# Altium integrated library ON Semi Digital Transistors (BRTs).IntLib: 470 symbols (part 2 of 11)
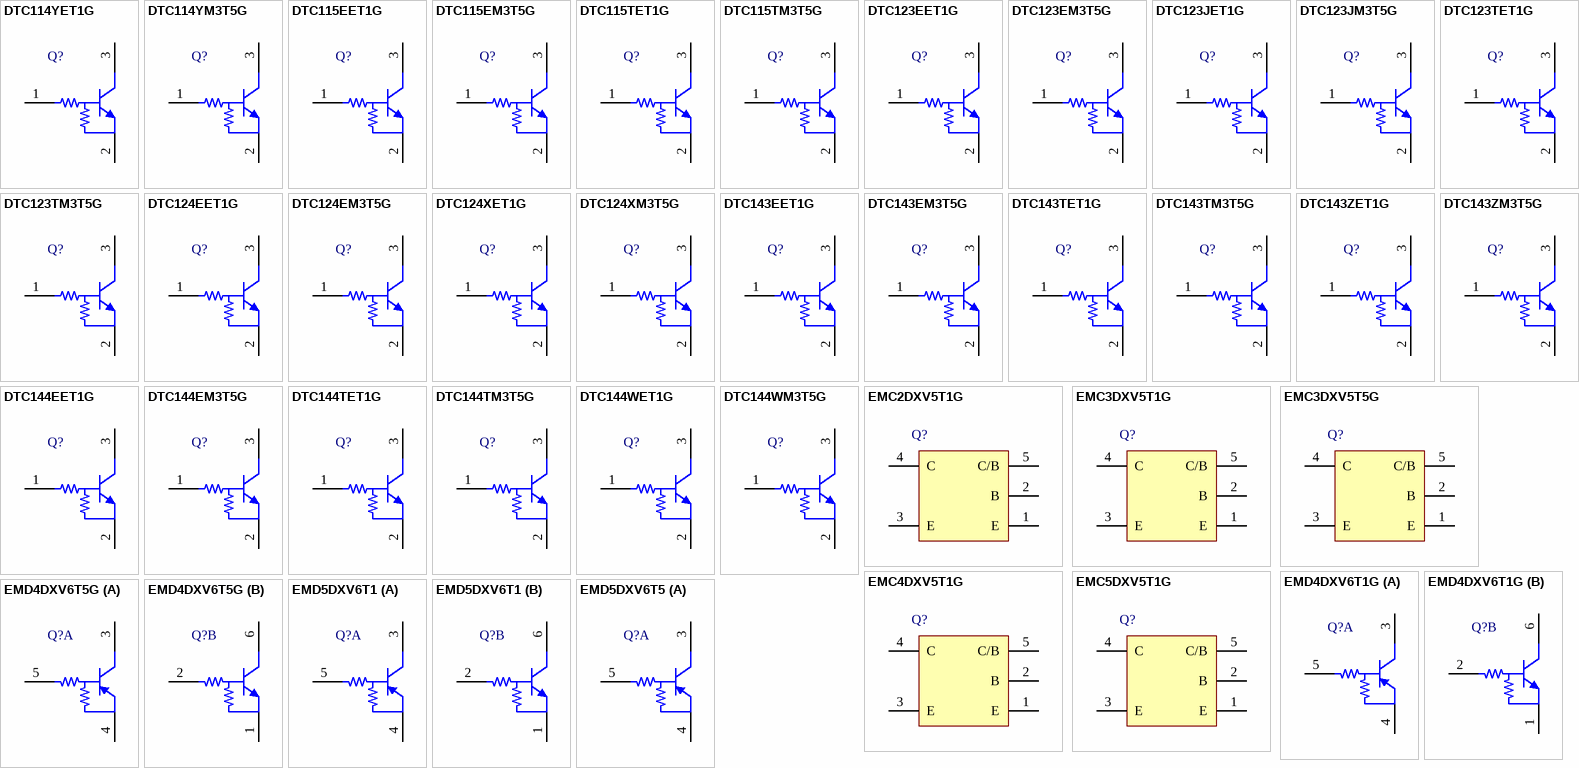
[diagram p17: symbols DTC114YET1G to EMD5DXV6T5]

## DTC115EM3T5G
designator Q?
Digital Transistor (BRT), R1=100 kOhm, R2=100 kOhm, NPN Transistor, 3-Pin SOT-723, Pb-Free, Tape and Reel; Manufacturer: On Semiconductor; PartNumber: DTC115EM3T5G; hFE Min: 80; IC Continuous (A): 0.1; R1/R2 Typ: 1; V(BR)CEO Min (V): 50; DatasheetVersion: Rev. 2; PackageVersion: Rev. D, 08/2009; PackageReference: SOT-723-3-631AA-01; PackageDescription: 3-Pin Small Outline Transistor, Body 1.2 x 0.8 mm, Pitch 0.4 mm; Supplier 1: Digi-Key; Supplier Part Number 1: DTC115EM3T5GOSTR-ND; Supplier 2: Digi-Key; Supplier Part Number 2: DTC115EM3T5GOSCT-ND; Supplier 3: Digi-Key; Supplier Part Number 3: DTC115EM3T5GOSDKR-ND; Supplier 4: Mouser; Supplier Part Number 4: 863-DTC115EM3T5G; Packing: Tape and Reel; Polarity: NPN; RoHS: TRUE; Mounting Technology: Surface Mount; ComponentLink1Description: Manufacturer URL; ComponentLink1URL: http://www.onsemi.com/; ComponentLink2Description: Datasheet; ComponentLink2URL: http://www.onsemi.cn/pub_link/Collateral/DTC115E-D.PDF; ComponentLink3Description: Package Specification; ComponentLink3URL: http://www.onsemi.com/pub_link/Collateral/631AA.PDF
footprint ONSC-SOT-723-3-631AA-01_V (SOT223, 3-Leads, Body 1.2x0.8mm, Pitch 0.4mm)
pins: 1 B, 2 E, 3 C

## DTC115TET1G
designator Q?
Digital Transistor (BRT), R1=100 kOhm, R2=infinity kOhm, NPN Transistor, 3-Pin SC-75, Pb-Free, Tape and Reel; Manufacturer: On Semiconductor; PartNumber: DTC115TET1G; hFE Min: 160; IC Continuous (A): 0.1; V(BR)CEO Min (V): 50; DatasheetVersion: Rev. 1; PackageVersion: Rev. F, 07/2005; PackageReference: SC-75-3-463-01; PackageDescription: 3-Pin Small Outline Transistor, Body 1.6 x 0.8 mm, Pitch 0.5 mm; Supplier 1: Newark; Supplier Part Number 1: 97W4983; Supplier 2: Mouser; Supplier Part Number 2: 863-DTC115TET1G; Packing: Tape and Reel; Polarity: NPN; RoHS: TRUE; Mounting Technology: Surface Mount; ComponentLink1Description: Manufacturer URL; ComponentLink1URL: http://www.onsemi.com/; ComponentLink2Description: Datasheet; ComponentLink2URL: http://www.onsemi.cn/pub_link/Collateral/DTC115T-D.PDF; ComponentLink3Description: Package Specification; ComponentLink3URL: http://www.onsemi.com/pub_link/Collateral/463-01.PDF
footprint ONSC-SC-75-3-463-01_V (SOT23, 3-Leads, Body 1.6x0.8mm, Pitch 0.5mm)
pins: 1 B, 2 E, 3 C

## DTC115TM3T5G
designator Q?
Digital Transistor (BRT), R1=100 kOhm, R2=infinity kOhm, NPN Transistor, 3-Pin SOT-723, Pb-Free, Tape and Reel; Manufacturer: On Semiconductor; PartNumber: DTC115TM3T5G; hFE Min: 160; IC Continuous (A): 0.1; V(BR)CEO Min (V): 50; DatasheetVersion: Rev. 1; PackageVersion: Rev. D, 08/2009; PackageReference: SOT-723-3-631AA-01; PackageDescription: 3-Pin Small Outline Transistor, Body 1.2 x 0.8 mm, Pitch 0.4 mm; Supplier 1: Newark; Supplier Part Number 1: 97W4984; Supplier 2: Mouser; Supplier Part Number 2: 863-DTC115TM3T5G; Packing: Tape and Reel; Polarity: NPN; RoHS: TRUE; Mounting Technology: Surface Mount; ComponentLink1Description: Manufacturer URL; ComponentLink1URL: http://www.onsemi.com/; ComponentLink2Description: Datasheet; ComponentLink2URL: http://www.onsemi.cn/pub_link/Collateral/DTC115T-D.PDF; ComponentLink3Description: Package Specification; ComponentLink3URL: http://www.onsemi.com/pub_link/Collateral/631AA.PDF
footprint ONSC-SOT-723-3-631AA-01_V (SOT223, 3-Leads, Body 1.2x0.8mm, Pitch 0.4mm)
pins: 1 B, 2 E, 3 C

## DTC123EET1G
designator Q?
Digital Transistor (BRT), R1=2.2 kOhm, R2=2.2 kOhm, NPN Transistor, 3-Pin SC-75, Pb-Free, Tape and Reel; Manufacturer: On Semiconductor; PartNumber: DTC123EET1G; hFE Min: 8; IC Continuous (A): 0.1; R1/R2 Typ: 1; V(BR)CEO Min (V): 50; DatasheetVersion: Rev. 1; PackageVersion: Rev. F, 07/2005; PackageReference: SC-75-3-463-01; PackageDescription: 3-Pin Small Outline Transistor, Body 1.6 x 0.8 mm, Pitch 0.5 mm; Supplier 1: Digi-Key; Supplier Part Number 1: DTC123EET1G-ND; Supplier 2: Mouser; Supplier Part Number 2: 863-DTC123EET1G; Packing: Tape and Reel; Polarity: NPN; RoHS: TRUE; Mounting Technology: Surface Mount; ComponentLink1Description: Manufacturer URL; ComponentLink1URL: http://www.onsemi.com/; ComponentLink2Description: Datasheet; ComponentLink2URL: http://www.onsemi.cn/pub_link/Collateral/DTC123E-D.PDF; ComponentLink3Description: Package Specification; ComponentLink3URL: http://www.onsemi.com/pub_link/Collateral/463-01.PDF
footprint ONSC-SC-75-3-463-01_V (SOT23, 3-Leads, Body 1.6x0.8mm, Pitch 0.5mm)
pins: 1 B, 2 E, 3 C

## DTC123EM3T5G
designator Q?
Digital Transistor (BRT), R1=2.2 kOhm, R2=2.2 kOhm, NPN Transistor, 3-Pin SOT-723, Pb-Free, Tape and Reel; Manufacturer: On Semiconductor; PartNumber: DTC123EM3T5G; hFE Min: 8; IC Continuous (A): 0.1; R1/R2 Typ: 1; V(BR)CEO Min (V): 50; DatasheetVersion: Rev. 1; PackageVersion: Rev. D, 08/2009; PackageReference: SOT-723-3-631AA-01; PackageDescription: 3-Pin Small Outline Transistor, Body 1.2 x 0.8 mm, Pitch 0.4 mm; Supplier 1: Digi-Key; Supplier Part Number 1: DTC123EM3T5GOSTR-ND; Supplier 2: Digi-Key; Supplier Part Number 2: DTC123EM3T5GOSCT-ND; Supplier 3: Mouser; Supplier Part Number 3: 863-DTC123EM3T5G; Packing: Tape and Reel; Polarity: NPN; RoHS: TRUE; Mounting Technology: Surface Mount; ComponentLink1Description: Manufacturer URL; ComponentLink1URL: http://www.onsemi.com/; ComponentLink2Description: Datasheet; ComponentLink2URL: http://www.onsemi.cn/pub_link/Collateral/DTC123E-D.PDF; ComponentLink3Description: Package Specification; ComponentLink3URL: http://www.onsemi.com/pub_link/Collateral/631AA.PDF
footprint ONSC-SOT-723-3-631AA-01_V (SOT223, 3-Leads, Body 1.2x0.8mm, Pitch 0.4mm)
pins: 1 B, 2 E, 3 C

## DTC123JET1G
designator Q?
Digital Transistor (BRT), R1=2.2 kOhm, R2=47 kOhm, NPN Transistor, 3-Pin SC-75, Pb-Free, Tape and Reel; Manufacturer: On Semiconductor; PartNumber: DTC123JET1G; hFE Min: 80; IC Continuous (A): 0.1; R1/R2 Typ: 0.047; V(BR)CEO Min (V): 50; DatasheetVersion: Rev. 1; PackageVersion: Rev. F, 07/2005; PackageReference: SC-75-3-463-01; PackageDescription: 3-Pin Small Outline Transistor, Body 1.6 x 0.8 mm, Pitch 0.5 mm; Supplier 1: Digi-Key; Supplier Part Number 1: DTC123JET1GOSTR-ND; Supplier 2: Digi-Key; Supplier Part Number 2: DTC123JET1GOSCT-ND; Supplier 3: Digi-Key; Supplier Part Number 3: DTC123JET1GOSDKR-ND; Supplier 4: Newark; Supplier Part Number 4: 88H4624; Supplier 5: Mouser; Supplier Part Number 5: 863-DTC123JET1G; Packing: Tape and Reel; Polarity: NPN; RoHS: TRUE; Mounting Technology: Surface Mount; ComponentLink1Description: Manufacturer URL; ComponentLink1URL: http://www.onsemi.com/; ComponentLink2Description: Datasheet; ComponentLink2URL: http://www.onsemi.cn/pub_link/Collateral/DTC123J-D.PDF; ComponentLink3Description: Package Specification; ComponentLink3URL: http://www.onsemi.com/pub_link/Collateral/463-01.PDF
footprint ONSC-SC-75-3-463-01_V (SOT23, 3-Leads, Body 1.6x0.8mm, Pitch 0.5mm)
pins: 1 B, 2 E, 3 C

## DTC123JM3T5G
designator Q?
Digital Transistor (BRT), R1=2.2 kOhm, R2=47 kOhm, NPN Transistor, 3-Pin SOT-723, Pb-Free, Tape and Reel; Manufacturer: On Semiconductor; PartNumber: DTC123JM3T5G; hFE Min: 80; IC Continuous (A): 0.1; R1/R2 Typ: 0.047; V(BR)CEO Min (V): 50; DatasheetVersion: Rev. 1; PackageVersion: Rev. D, 08/2009; PackageReference: SOT-723-3-631AA-01; PackageDescription: 3-Pin Small Outline Transistor, Body 1.2 x 0.8 mm, Pitch 0.4 mm; Supplier 1: Digi-Key; Supplier Part Number 1: DTC123JM3T5GOSTR-ND; Supplier 2: Digi-Key; Supplier Part Number 2: DTC123JM3T5GOSCT-ND; Supplier 3: Mouser; Supplier Part Number 3: 863-DTC123JM3T5G; Packing: Tape and Reel; Polarity: NPN; RoHS: TRUE; Mounting Technology: Surface Mount; ComponentLink1Description: Manufacturer URL; ComponentLink1URL: http://www.onsemi.com/; ComponentLink2Description: Datasheet; ComponentLink2URL: http://www.onsemi.cn/pub_link/Collateral/DTC123J-D.PDF; ComponentLink3Description: Package Specification; ComponentLink3URL: http://www.onsemi.com/pub_link/Collateral/631AA.PDF
footprint ONSC-SOT-723-3-631AA-01_V (SOT223, 3-Leads, Body 1.2x0.8mm, Pitch 0.4mm)
pins: 1 B, 2 E, 3 C

## DTC123TET1G
designator Q?
Digital Transistor (BRT), R1=2.2 kOhm, R2=infinity kOhm, NPN Transistor, 3-Pin SC-75, Pb-Free, Tape and Reel; Manufacturer: On Semiconductor; PartNumber: DTC123TET1G; hFE Min: 160; IC Continuous (A): 0.1; V(BR)CEO Min (V): 50; DatasheetVersion: Rev. 1; PackageVersion: Rev. F, 07/2005; PackageReference: SC-75-3-463-01; PackageDescription: 3-Pin Small Outline Transistor, Body 1.6 x 0.8 mm, Pitch 0.5 mm; Supplier 1: Newark; Supplier Part Number 1: 97W4985; Supplier 2: Mouser; Supplier Part Number 2: 863-DTC123TET1G; Packing: Tape and Reel; Polarity: NPN; RoHS: TRUE; Mounting Technology: Surface Mount; ComponentLink1Description: Manufacturer URL; ComponentLink1URL: http://www.onsemi.com/; ComponentLink2Description: Datasheet; ComponentLink2URL: http://www.onsemi.cn/pub_link/Collateral/DTC123T-D.PDF; ComponentLink3Description: Package Specification; ComponentLink3URL: http://www.onsemi.com/pub_link/Collateral/463-01.PDF
footprint ONSC-SC-75-3-463-01_V (SOT23, 3-Leads, Body 1.6x0.8mm, Pitch 0.5mm)
pins: 1 B, 2 E, 3 C

## DTC123TM3T5G
designator Q?
Digital Transistor (BRT), R1=2.2 kOhm, R2=infinity kOhm, NPN Transistor, 3-Pin SOT-723, Pb-Free, Tape and Reel; Manufacturer: On Semiconductor; PartNumber: DTC123TM3T5G; hFE Min: 160; IC Continuous (A): 0.1; V(BR)CEO Min (V): 50; DatasheetVersion: Rev. 1; PackageVersion: Rev. D, 08/2009; PackageReference: SOT-723-3-631AA-01; PackageDescription: 3-Pin Small Outline Transistor, Body 1.2 x 0.8 mm, Pitch 0.4 mm; Supplier 1: Newark; Supplier Part Number 1: 97W4986; Supplier 2: Mouser; Supplier Part Number 2: 863-DTC123TM3T5G; Packing: Tape and Reel; Polarity: NPN; RoHS: TRUE; Mounting Technology: Surface Mount; ComponentLink1Description: Manufacturer URL; ComponentLink1URL: http://www.onsemi.com/; ComponentLink2Description: Datasheet; ComponentLink2URL: http://www.onsemi.cn/pub_link/Collateral/DTC123T-D.PDF; ComponentLink3Description: Package Specification; ComponentLink3URL: http://www.onsemi.com/pub_link/Collateral/631AA.PDF
footprint ONSC-SOT-723-3-631AA-01_V (SOT223, 3-Leads, Body 1.2x0.8mm, Pitch 0.4mm)
pins: 1 B, 2 E, 3 C

## DTC124EET1G
designator Q?
Digital Transistor (BRT), R1=22 kOhm, R2=22 kOhm, NPN Transistor, 3-Pin SC-75, Pb-Free, Tape and Reel; Manufacturer: On Semiconductor; PartNumber: DTC124EET1G; hFE Min: 60; IC Continuous (A): 0.1; R1/R2 Typ: 1; V(BR)CEO Min (V): 50; DatasheetVersion: Rev. 2; PackageVersion: Rev. F, 07/2005; PackageReference: SC-75-3-463-01; PackageDescription: 3-Pin Small Outline Transistor, Body 1.6 x 0.8 mm, Pitch 0.5 mm; Supplier 1: Digi-Key; Supplier Part Number 1: DTC124EET1GOSTR-ND; Supplier 2: Digi-Key; Supplier Part Number 2: DTC124EET1GOSCT-ND; Supplier 3: Digi-Key; Supplier Part Number 3: DTC124EET1GOSDKR-ND; Supplier 4: Newark; Supplier Part Number 4: 88H4625; Supplier 5: Mouser; Supplier Part Number 5: 863-DTC124EET1G; Packing: Tape and Reel; Polarity: NPN; RoHS: TRUE; Mounting Technology: Surface Mount; ComponentLink1Description: Manufacturer URL; ComponentLink1URL: http://www.onsemi.com/; ComponentLink2Description: Datasheet; ComponentLink2URL: http://www.onsemi.cn/pub_link/Collateral/DTC124E-D.PDF; ComponentLink3Description: Package Specification; ComponentLink3URL: http://www.onsemi.com/pub_link/Collateral/463-01.PDF
footprint ONSC-SC-75-3-463-01_V (SOT23, 3-Leads, Body 1.6x0.8mm, Pitch 0.5mm)
pins: 1 B, 2 E, 3 C

## DTC124EM3T5G
designator Q?
Digital Transistor (BRT), R1=22 kOhm, R2=22 kOhm, NPN Transistor, 3-Pin SOT-723, Pb-Free, Tape and Reel; Manufacturer: On Semiconductor; PartNumber: DTC124EM3T5G; hFE Min: 60; IC Continuous (A): 0.1; R1/R2 Typ: 1; V(BR)CEO Min (V): 50; DatasheetVersion: Rev. 2; PackageVersion: Rev. D, 08/2009; PackageReference: SOT-723-3-631AA-01; PackageDescription: 3-Pin Small Outline Transistor, Body 1.2 x 0.8 mm, Pitch 0.4 mm; Supplier 1: Digi-Key; Supplier Part Number 1: DTC124EM3T5GOSTR-ND; Supplier 2: Digi-Key; Supplier Part Number 2: DTC124EM3T5GOSCT-ND; Supplier 3: Mouser; Supplier Part Number 3: 863-DTC124EM3T5G; Packing: Tape and Reel; Polarity: NPN; RoHS: TRUE; Mounting Technology: Surface Mount; ComponentLink1Description: Manufacturer URL; ComponentLink1URL: http://www.onsemi.com/; ComponentLink2Description: Datasheet; ComponentLink2URL: http://www.onsemi.cn/pub_link/Collateral/DTC124E-D.PDF; ComponentLink3Description: Package Specification; ComponentLink3URL: http://www.onsemi.com/pub_link/Collateral/631AA.PDF
footprint ONSC-SOT-723-3-631AA-01_V (SOT223, 3-Leads, Body 1.2x0.8mm, Pitch 0.4mm)
pins: 1 B, 2 E, 3 C

## DTC124XET1G
designator Q?
Digital Transistor (BRT), R1=22 kOhm, R2=47 kOhm, NPN Transistor, 3-Pin SC-75, Pb-Free, Tape and Reel; Manufacturer: On Semiconductor; PartNumber: DTC124XET1G; hFE Min: 80; IC Continuous (A): 0.1; R1/R2 Typ: 0.47; V(BR)CEO Min (V): 50; DatasheetVersion: Rev. 1; PackageVersion: Rev. F, 07/2005; PackageReference: SC-75-3-463-01; PackageDescription: 3-Pin Small Outline Transistor, Body 1.6 x 0.8 mm, Pitch 0.5 mm; Supplier 1: Digi-Key; Supplier Part Number 1: DTC124XET1G-ND; Supplier 2: Newark; Supplier Part Number 2: 88H4627; Supplier 3: Mouser; Supplier Part Number 3: 863-DTC124XET1G; Packing: Tape and Reel; Polarity: NPN; RoHS: TRUE; Mounting Technology: Surface Mount; ComponentLink1Description: Manufacturer URL; ComponentLink1URL: http://www.onsemi.com/; ComponentLink2Description: Datasheet; ComponentLink2URL: http://www.onsemi.cn/pub_link/Collateral/DTC124X-D.PDF; ComponentLink3Description: Package Specification; ComponentLink3URL: http://www.onsemi.com/pub_link/Collateral/463-01.PDF
footprint ONSC-SC-75-3-463-01_V (SOT23, 3-Leads, Body 1.6x0.8mm, Pitch 0.5mm)
pins: 1 B, 2 E, 3 C

## DTC124XM3T5G
designator Q?
Digital Transistor (BRT), R1=22 kOhm, R2=47 kOhm, NPN Transistor, 3-Pin SOT-723, Pb-Free, Tape and Reel; Manufacturer: On Semiconductor; PartNumber: DTC124XM3T5G; hFE Min: 80; IC Continuous (A): 0.1; R1/R2 Typ: 0.47; V(BR)CEO Min (V): 50; DatasheetVersion: Rev. 1; PackageVersion: Rev. D, 08/2009; PackageReference: SOT-723-3-631AA-01; PackageDescription: 3-Pin Small Outline Transistor, Body 1.2 x 0.8 mm, Pitch 0.4 mm; Supplier 1: Digi-Key; Supplier Part Number 1: DTC124XM3T5GOSTR-ND; Supplier 2: Digi-Key; Supplier Part Number 2: DTC124XM3T5GOSCT-ND; Supplier 3: Mouser; Supplier Part Number 3: 863-DTC124XM3T5G; Packing: Tape and Reel; Polarity: NPN; RoHS: TRUE; Mounting Technology: Surface Mount; ComponentLink1Description: Manufacturer URL; ComponentLink1URL: http://www.onsemi.com/; ComponentLink2Description: Datasheet; ComponentLink2URL: http://www.onsemi.cn/pub_link/Collateral/DTC124X-D.PDF; ComponentLink3Description: Package Specification; ComponentLink3URL: http://www.onsemi.com/pub_link/Collateral/631AA.PDF
footprint ONSC-SOT-723-3-631AA-01_V (SOT223, 3-Leads, Body 1.2x0.8mm, Pitch 0.4mm)
pins: 1 B, 2 E, 3 C

## DTC143EET1G
designator Q?
Digital Transistor (BRT), R1=4.7 kOhm, R2=4.7 kOhm, NPN Transistor, 3-Pin SC-75, Pb-Free, Tape and Reel; Manufacturer: On Semiconductor; PartNumber: DTC143EET1G; hFE Min: 15; IC Continuous (A): 0.1; R1/R2 Typ: 1; V(BR)CEO Min (V): 50; DatasheetVersion: Rev. 2; PackageVersion: Rev. F, 07/2005; PackageReference: SC-75-3-463-01; PackageDescription: 3-Pin Small Outline Transistor, Body 1.6 x 0.8 mm, Pitch 0.5 mm; Supplier 1: Digi-Key; Supplier Part Number 1: DTC143EET1G-ND; Supplier 2: Newark; Supplier Part Number 2: 88H4628; Supplier 3: Mouser; Supplier Part Number 3: 863-DTC143EET1G; Packing: Tape and Reel; Polarity: NPN; RoHS: TRUE; Mounting Technology: Surface Mount; ComponentLink1Description: Manufacturer URL; ComponentLink1URL: http://www.onsemi.com/; ComponentLink2Description: Datasheet; ComponentLink2URL: http://www.onsemi.cn/pub_link/Collateral/DTC143E-D.PDF; ComponentLink3Description: Package Specification; ComponentLink3URL: http://www.onsemi.com/pub_link/Collateral/463-01.PDF
footprint ONSC-SC-75-3-463-01_V (SOT23, 3-Leads, Body 1.6x0.8mm, Pitch 0.5mm)
pins: 1 B, 2 E, 3 C

## DTC143EM3T5G
designator Q?
Digital Transistor (BRT), R1=4.7 kOhm, R2=4.7 kOhm, NPN Transistor, 3-Pin SOT-723, Pb-Free, Tape and Reel; Manufacturer: On Semiconductor; PartNumber: DTC143EM3T5G; hFE Min: 15; IC Continuous (A): 0.1; R1/R2 Typ: 1; V(BR)CEO Min (V): 50; DatasheetVersion: Rev. 2; PackageVersion: Rev. D, 08/2009; PackageReference: SOT-723-3-631AA-01; PackageDescription: 3-Pin Small Outline Transistor, Body 1.2 x 0.8 mm, Pitch 0.4 mm; Supplier 1: Digi-Key; Supplier Part Number 1: DTC143EM3T5GOSTR-ND; Supplier 2: Digi-Key; Supplier Part Number 2: DTC143EM3T5GOSCT-ND; Supplier 3: Mouser; Supplier Part Number 3: 863-DTC143EM3T5G; Packing: Tape and Reel; Polarity: NPN; RoHS: TRUE; Mounting Technology: Surface Mount; ComponentLink1Description: Manufacturer URL; ComponentLink1URL: http://www.onsemi.com/; ComponentLink2Description: Datasheet; ComponentLink2URL: http://www.onsemi.cn/pub_link/Collateral/DTC143E-D.PDF; ComponentLink3Description: Package Specification; ComponentLink3URL: http://www.onsemi.com/pub_link/Collateral/631AA.PDF
footprint ONSC-SOT-723-3-631AA-01_V (SOT223, 3-Leads, Body 1.2x0.8mm, Pitch 0.4mm)
pins: 1 B, 2 E, 3 C

## DTC143TET1G
designator Q?
Digital Transistor (BRT), R1=4.7 kOhm, R2=infinity kOhm, NPN Transistor, 3-Pin SC-75, Pb-Free, Tape and Reel; Manufacturer: On Semiconductor; PartNumber: DTC143TET1G; hFE Min: 160; IC Continuous (A): 0.1; V(BR)CEO Min (V): 50; DatasheetVersion: Rev. 1; PackageVersion: Rev. F, 07/2005; PackageReference: SC-75-3-463-01; PackageDescription: 3-Pin Small Outline Transistor, Body 1.6 x 0.8 mm, Pitch 0.5 mm; Supplier 1: Digi-Key; Supplier Part Number 1: DTC143TET1G-ND; Supplier 2: Mouser; Supplier Part Number 2: 863-DTC143TET1G; Packing: Tape and Reel; Polarity: NPN; RoHS: TRUE; Mounting Technology: Surface Mount; ComponentLink1Description: Manufacturer URL; ComponentLink1URL: http://www.onsemi.com/; ComponentLink2Description: Datasheet; ComponentLink2URL: http://www.onsemi.cn/pub_link/Collateral/DTC143T-D.PDF; ComponentLink3Description: Package Specification; ComponentLink3URL: http://www.onsemi.com/pub_link/Collateral/463-01.PDF
footprint ONSC-SC-75-3-463-01_V (SOT23, 3-Leads, Body 1.6x0.8mm, Pitch 0.5mm)
pins: 1 B, 2 E, 3 C

## DTC143TM3T5G
designator Q?
Digital Transistor (BRT), R1=4.7 kOhm, R2=infinity kOhm, NPN Transistor, 3-Pin SOT-723, Pb-Free, Tape and Reel; Manufacturer: On Semiconductor; PartNumber: DTC143TM3T5G; hFE Min: 160; IC Continuous (A): 0.1; V(BR)CEO Min (V): 50; DatasheetVersion: Rev. 1; PackageVersion: Rev. D, 08/2009; PackageReference: SOT-723-3-631AA-01; PackageDescription: 3-Pin Small Outline Transistor, Body 1.2 x 0.8 mm, Pitch 0.4 mm; Supplier 1: Digi-Key; Supplier Part Number 1: DTC143TM3T5GOSTR-ND; Supplier 2: Digi-Key; Supplier Part Number 2: DTC143TM3T5GOSCT-ND; Supplier 3: Digi-Key; Supplier Part Number 3: DTC143TM3T5GOSDKR-ND; Supplier 4: Mouser; Supplier Part Number 4: 863-DTC143TM3T5G; Packing: Tape and Reel; Polarity: NPN; RoHS: TRUE; Mounting Technology: Surface Mount; ComponentLink1Description: Manufacturer URL; ComponentLink1URL: http://www.onsemi.com/; ComponentLink2Description: Datasheet; ComponentLink2URL: http://www.onsemi.cn/pub_link/Collateral/DTC143T-D.PDF; ComponentLink3Description: Package Specification; ComponentLink3URL: http://www.onsemi.com/pub_link/Collateral/631AA.PDF
footprint ONSC-SOT-723-3-631AA-01_V (SOT223, 3-Leads, Body 1.2x0.8mm, Pitch 0.4mm)
pins: 1 B, 2 E, 3 C

## DTC143ZET1G
designator Q?
Digital Transistor (BRT), R1=4.7 kOhm, R2=47 kOhm, NPN Transistor, 3-Pin SC-75, Pb-Free, Tape and Reel; Manufacturer: On Semiconductor; PartNumber: DTC143ZET1G; hFE Min: 80; IC Continuous (A): 0.1; V(BR)CEO Min (V): 50; DatasheetVersion: Rev. 4; PackageVersion: Rev. F, 07/2005; PackageReference: SC-75-3-463-01; PackageDescription: 3-Pin Small Outline Transistor, Body 1.6 x 0.8 mm, Pitch 0.5 mm; Supplier 1: Digi-Key; Supplier Part Number 1: DTC143ZET1GOSTR-ND; Supplier 2: Digi-Key; Supplier Part Number 2: DTC143ZET1GOSCT-ND; Supplier 3: Digi-Key; Supplier Part Number 3: DTC143ZET1GOSDKR-ND; Supplier 4: Newark; Supplier Part Number 4: 10M8784; Supplier 5: Mouser; Supplier Part Number 5: 863-DTC143ZET1G; Packing: Tape and Reel; Polarity: NPN; R1/R2 Typ: 0.1; RoHS: TRUE; Mounting Technology: Surface Mount; ComponentLink1Description: Manufacturer URL; ComponentLink1URL: http://www.onsemi.com/; ComponentLink2Description: Datasheet; ComponentLink2URL: http://www.onsemi.cn/pub_link/Collateral/DTC143Z-D.PDF; ComponentLink3Description: Package Specification; ComponentLink3URL: http://www.onsemi.com/pub_link/Collateral/463-01.PDF
footprint ONSC-SC-75-3-463-01_V (SOT23, 3-Leads, Body 1.6x0.8mm, Pitch 0.5mm)
pins: 1 B, 2 E, 3 C

## DTC143ZM3T5G
designator Q?
Digital Transistor (BRT), R1=4.7 kOhm, R2=47 kOhm, NPN Transistor, 3-Pin SOT-723, Pb-Free, Tape and Reel; Manufacturer: On Semiconductor; PartNumber: DTC143ZM3T5G; hFE Min: 80; IC Continuous (A): 0.1; V(BR)CEO Min (V): 50; DatasheetVersion: Rev. 4; PackageVersion: Rev. D, 08/2009; PackageReference: SOT-723-3-631AA-01; PackageDescription: 3-Pin Small Outline Transistor, Body 1.2 x 0.8 mm, Pitch 0.4 mm; Supplier 1: Digi-Key; Supplier Part Number 1: DTC143ZM3T5GOSTR-ND; Supplier 2: Digi-Key; Supplier Part Number 2: DTC143ZM3T5GOSCT-ND; Supplier 3: Mouser; Supplier Part Number 3: 863-DTC143ZM3T5G; Packing: Tape and Reel; Polarity: NPN; R1/R2 Typ: 0.1; RoHS: TRUE; Mounting Technology: Surface Mount; ComponentLink1Description: Manufacturer URL; ComponentLink1URL: http://www.onsemi.com/; ComponentLink2Description: Datasheet; ComponentLink2URL: http://www.onsemi.cn/pub_link/Collateral/DTC143Z-D.PDF; ComponentLink3Description: Package Specification; ComponentLink3URL: http://www.onsemi.com/pub_link/Collateral/631AA.PDF
footprint ONSC-SOT-723-3-631AA-01_V (SOT223, 3-Leads, Body 1.2x0.8mm, Pitch 0.4mm)
pins: 1 B, 2 E, 3 C

## DTC144EET1G
designator Q?
Digital Transistor (BRT), R1=47 kOhm, R2=47 kOhm, NPN Transistor, 3-Pin SC-75, Pb-Free, Tape and Reel; Manufacturer: On Semiconductor; PartNumber: DTC144EET1G; hFE Min: 80; IC Continuous (A): 0.1; R1/R2 Typ: 1; V(BR)CEO Min (V): 50; DatasheetVersion: Rev. 2; PackageVersion: Rev. F, 07/2005; PackageReference: SC-75-3-463-01; PackageDescription: 3-Pin Small Outline Transistor, Body 1.6 x 0.8 mm, Pitch 0.5 mm; Supplier 1: Digi-Key; Supplier Part Number 1: DTC144EET1GOSTR-ND; Supplier 2: Digi-Key; Supplier Part Number 2: DTC144EET1GOSCT-ND; Supplier 3: Digi-Key; Supplier Part Number 3: DTC144EET1GOSDKR-ND; Supplier 4: Farnell; Supplier Part Number 4: 1611375RL; Supplier 5: Farnell; Supplier Part Number 5: 1611375; Supplier 6: Newark; Supplier Part Number 6: 88H4632; Supplier 7: Mouser; Supplier Part Number 7: 863-DTC144EET1G; Packing: Tape and Reel; Polarity: NPN; RoHS: TRUE; Mounting Technology: Surface Mount; ComponentLink1Description: Manufacturer URL; ComponentLink1URL: http://www.onsemi.com/; ComponentLink2Description: Datasheet; ComponentLink2URL: http://www.onsemi.cn/pub_link/Collateral/DTC144E-D.PDF; ComponentLink3Description: Package Specification; ComponentLink3URL: http://www.onsemi.com/pub_link/Collateral/463-01.PDF
footprint ONSC-SC-75-3-463-01_V (SOT23, 3-Leads, Body 1.6x0.8mm, Pitch 0.5mm)
pins: 1 B, 2 E, 3 C

## DTC144EM3T5G
designator Q?
Digital Transistor (BRT), R1=47 kOhm, R2=47 kOhm, NPN Transistor, 3-Pin SOT-723, Pb-Free, Tape and Reel; Manufacturer: On Semiconductor; PartNumber: DTC144EM3T5G; hFE Min: 80; IC Continuous (A): 0.1; R1/R2 Typ: 1; V(BR)CEO Min (V): 50; DatasheetVersion: Rev. 2; PackageVersion: Rev. D, 08/2009; PackageReference: SOT-723-3-631AA-01; PackageDescription: 3-Pin Small Outline Transistor, Body 1.2 x 0.8 mm, Pitch 0.4 mm; Supplier 1: Digi-Key; Supplier Part Number 1: DTC144EM3T5GOSTR-ND; Supplier 2: Digi-Key; Supplier Part Number 2: DTC144EM3T5GOSCT-ND; Supplier 3: Mouser; Supplier Part Number 3: 863-DTC144EM3T5G; Packing: Tape and Reel; Polarity: NPN; RoHS: TRUE; Mounting Technology: Surface Mount; ComponentLink1Description: Manufacturer URL; ComponentLink1URL: http://www.onsemi.com/; ComponentLink2Description: Datasheet; ComponentLink2URL: http://www.onsemi.cn/pub_link/Collateral/DTC144E-D.PDF; ComponentLink3Description: Package Specification; ComponentLink3URL: http://www.onsemi.com/pub_link/Collateral/631AA.PDF
footprint ONSC-SOT-723-3-631AA-01_V (SOT223, 3-Leads, Body 1.2x0.8mm, Pitch 0.4mm)
pins: 1 B, 2 E, 3 C

## DTC144TET1G
designator Q?
Digital Transistor (BRT), R1=47 kOhm, R2=infinity kOhm, NPN Transistor, 3-Pin SC-75, Pb-Free, Tape and Reel; Manufacturer: On Semiconductor; PartNumber: DTC144TET1G; hFE Min: 120; IC Continuous (A): 0.1; V(BR)CEO Min (V): 50; DatasheetVersion: Rev. 2; PackageVersion: Rev. F, 07/2005; PackageReference: SC-75-3-463-01; PackageDescription: 3-Pin Small Outline Transistor, Body 1.6 x 0.8 mm, Pitch 0.5 mm; Supplier 1: Newark; Supplier Part Number 1: 97W4987; Supplier 2: Mouser; Supplier Part Number 2: 863-DTC144TET1G; Packing: Tape and Reel; Polarity: NPN; RoHS: TRUE; Mounting Technology: Surface Mount; ComponentLink1Description: Manufacturer URL; ComponentLink1URL: http://www.onsemi.com/; ComponentLink2Description: Datasheet; ComponentLink2URL: http://www.onsemi.cn/pub_link/Collateral/DTC144T-D.PDF; ComponentLink3Description: Package Specification; ComponentLink3URL: http://www.onsemi.com/pub_link/Collateral/463-01.PDF
footprint ONSC-SC-75-3-463-01_V (SOT23, 3-Leads, Body 1.6x0.8mm, Pitch 0.5mm)
pins: 1 B, 2 E, 3 C

## DTC144TM3T5G
designator Q?
Digital Transistor (BRT), R1=47 kOhm, R2=infinity kOhm, NPN Transistor, 3-Pin SOT-723, Pb-Free, Tape and Reel; Manufacturer: On Semiconductor; PartNumber: DTC144TM3T5G; hFE Min: 120; IC Continuous (A): 0.1; V(BR)CEO Min (V): 50; DatasheetVersion: Rev. 2; PackageVersion: Rev. D, 08/2009; PackageReference: SOT-723-3-631AA-01; PackageDescription: 3-Pin Small Outline Transistor, Body 1.2 x 0.8 mm, Pitch 0.4 mm; Supplier 1: Digi-Key; Supplier Part Number 1: DTC144TM3T5GOSTR-ND; Supplier 2: Digi-Key; Supplier Part Number 2: DTC144TM3T5GOSCT-ND; Supplier 3: Mouser; Supplier Part Number 3: 863-DTC144TM3T5G; Packing: Tape and Reel; Polarity: NPN; RoHS: TRUE; Mounting Technology: Surface Mount; ComponentLink1Description: Manufacturer URL; ComponentLink1URL: http://www.onsemi.com/; ComponentLink2Description: Datasheet; ComponentLink2URL: http://www.onsemi.cn/pub_link/Collateral/DTC144T-D.PDF; ComponentLink3Description: Package Specification; ComponentLink3URL: http://www.onsemi.com/pub_link/Collateral/631AA.PDF
footprint ONSC-SOT-723-3-631AA-01_V (SOT223, 3-Leads, Body 1.2x0.8mm, Pitch 0.4mm)
pins: 1 B, 2 E, 3 C

## DTC144WET1G
designator Q?
Digital Transistor (BRT), R1=47 kOhm, R2=22 kOhm, NPN Transistor, 3-Pin SC-75, Pb-Free, Tape and Reel; Manufacturer: On Semiconductor; PartNumber: DTC144WET1G; hFE Min: 80; IC Continuous (A): 0.1; R1/R2 Typ: 2.1; V(BR)CEO Min (V): 50; DatasheetVersion: Rev. 2; PackageVersion: Rev. F, 07/2005; PackageReference: SC-75-3-463-01; PackageDescription: 3-Pin Small Outline Transistor, Body 1.6 x 0.8 mm, Pitch 0.5 mm; Supplier 1: Mouser; Supplier Part Number 1: N/A; Packing: Tape and Reel; Polarity: NPN; RoHS: TRUE; Mounting Technology: Surface Mount; ComponentLink1Description: Manufacturer URL; ComponentLink1URL: http://www.onsemi.com/; ComponentLink2Description: Datasheet; ComponentLink2URL: http://www.onsemi.cn/pub_link/Collateral/DTC144W-D.PDF; ComponentLink3Description: Package Specification; ComponentLink3URL: http://www.onsemi.com/pub_link/Collateral/463-01.PDF
footprint ONSC-SC-75-3-463-01_V (SOT23, 3-Leads, Body 1.6x0.8mm, Pitch 0.5mm)
pins: 1 B, 2 E, 3 C

## DTC144WM3T5G
designator Q?
Digital Transistor (BRT), R1=47 kOhm, R2=22 kOhm, NPN Transistor, 3-Pin SOT-723, Pb-Free, Tape and Reel; Manufacturer: On Semiconductor; PartNumber: DTC144WM3T5G; hFE Min: 80; IC Continuous (A): 0.1; R1/R2 Typ: 2.1; V(BR)CEO Min (V): 50; DatasheetVersion: Rev. 2; PackageVersion: Rev. D, 08/2009; PackageReference: SOT-723-3-631AA-01; PackageDescription: 3-Pin Small Outline Transistor, Body 1.2 x 0.8 mm, Pitch 0.4 mm; Supplier 1: Digi-Key; Supplier Part Number 1: DTC144WM3T5G-ND; Supplier 2: Mouser; Supplier Part Number 2: 863-DTC144WM3T5G; Packing: Tape and Reel; Polarity: NPN; RoHS: TRUE; Mounting Technology: Surface Mount; ComponentLink1Description: Manufacturer URL; ComponentLink1URL: http://www.onsemi.com/; ComponentLink2Description: Datasheet; ComponentLink2URL: http://www.onsemi.cn/pub_link/Collateral/DTC144W-D.PDF; ComponentLink3Description: Package Specification; ComponentLink3URL: http://www.onsemi.com/pub_link/Collateral/631AA.PDF
footprint ONSC-SOT-723-3-631AA-01_V (SOT223, 3-Leads, Body 1.2x0.8mm, Pitch 0.4mm)
pins: 1 B, 2 E, 3 C

## EMC2DXV5T1G
designator Q?
Dual Common Base-Collector Bias Resistor Transistors, NPN and PNP Silicon Surface Mount Transistors, 5-Pin SOT-553, Pb-Free, Tape and Reel; Manufacturer: On Semiconductor; PartNumber: EMC2DXV5T1G; hFE Min: 60; IC Continuous (A): 0.1; Polarity: Complementary; R1/R2 Typ: 1; V(BR)CEO Min (V): 50; DatasheetVersion: Rev. 6; PackageVersion: Rev. B, 05/2005; PackageReference: SOT-553-5-463B_B; PackageDescription: 5-Pin Small Outline Transistor, Body 1.6 x 1.2 mm, Pitch 0.5 mm; Supplier 1: Digi-Key; Supplier Part Number 1: EMC2DXV5T1GOSTR-ND; Supplier 2: Digi-Key; Supplier Part Number 2: EMC2DXV5T1GOSCT-ND; Supplier 3: Mouser; Supplier Part Number 3: 863-EMC2DXV5T1G; Packing: Tape and Reel; RoHS: TRUE; Mounting Technology: Surface Mount; ComponentLink1Description: Manufacturer URL; ComponentLink1URL: http://www.onsemi.com/; ComponentLink2Description: Datasheet; ComponentLink2URL: http://www.onsemi.cn/pub_link/Collateral/EMC2DXV5T1-D.PDF; ComponentLink3Description: Package Specification; ComponentLink3URL: http://www.onsemi.com/pub_link/Collateral/NZQA5V6AXV5%20SERIES-D.PDF
footprint ONSC-SOT-553-5-463B_B_V (SOT23, 5-Leads, Body 1.6x1.2mm, Pitch 0.5mm)
pins: 1 E, 2 B, 3 E, 4 C, 5 C/B

## EMC3DXV5T1G
designator Q?
Dual Common Base-Collector Bias Resistor Transistors, NPN and PNP Silicon Surface Mount Transistors, 5-Pin SOT-553, Pb-Free, Tape and Reel; Manufacturer: On Semiconductor; PartNumber: EMC3DXV5T1G; hFE Min: 35; IC Continuous (A): 0.1; Polarity: Complementary; R1/R2 Typ: 1; V(BR)CEO Min (V): 50; DatasheetVersion: Rev. 6; PackageVersion: Rev. B, 05/2005; PackageReference: SOT-553-5-463B_B; PackageDescription: 5-Pin Small Outline Transistor, Body 1.6 x 1.2 mm, Pitch 0.5 mm; Supplier 1: Digi-Key; Supplier Part Number 1: EMC3DXV5T1GOSTR-ND; Supplier 2: Digi-Key; Supplier Part Number 2: EMC3DXV5T1GOSCT-ND; Supplier 3: Mouser; Supplier Part Number 3: 863-EMC3DXV5T1G; Packing: Tape and Reel; RoHS: TRUE; Mounting Technology: Surface Mount; ComponentLink1Description: Manufacturer URL; ComponentLink1URL: http://www.onsemi.com/; ComponentLink2Description: Datasheet; ComponentLink2URL: http://www.onsemi.cn/pub_link/Collateral/EMC2DXV5T1-D.PDF; ComponentLink3Description: Package Specification; ComponentLink3URL: http://www.onsemi.com/pub_link/Collateral/NZQA5V6AXV5%20SERIES-D.PDF
footprint ONSC-SOT-553-5-463B_B_V (SOT23, 5-Leads, Body 1.6x1.2mm, Pitch 0.5mm)
pins: 1 E, 2 B, 3 E, 4 C, 5 C/B

## EMC3DXV5T5G
designator Q?
Dual Common Base-Collector Bias Resistor Transistors, NPN and PNP Silicon Surface Mount Transistors, 5-Pin SOT-553, Pb-Free, Tape and Reel; Manufacturer: On Semiconductor; PartNumber: EMC3DXV5T5G; hFE Min: 35; IC Continuous (A): 0.1; Polarity: Complementary; R1/R2 Typ: 1; V(BR)CEO Min (V): 50; DatasheetVersion: Rev. 6; PackageVersion: Rev. B, 05/2005; PackageReference: SOT-553-5-463B_B; PackageDescription: 5-Pin Small Outline Transistor, Body 1.6 x 1.2 mm, Pitch 0.5 mm; Supplier 1: Digi-Key; Supplier Part Number 1: EMC3DXV5T5G-ND; Supplier 2: Mouser; Supplier Part Number 2: 863-EMC3DXV5T5G; Packing: Tape and Reel; RoHS: TRUE; Mounting Technology: Surface Mount; ComponentLink1Description: Manufacturer URL; ComponentLink1URL: http://www.onsemi.com/; ComponentLink2Description: Datasheet; ComponentLink2URL: http://www.onsemi.cn/pub_link/Collateral/EMC2DXV5T1-D.PDF; ComponentLink3Description: Package Specification; ComponentLink3URL: http://www.onsemi.com/pub_link/Collateral/NZQA5V6AXV5%20SERIES-D.PDF
footprint ONSC-SOT-553-5-463B_B_V (SOT23, 5-Leads, Body 1.6x1.2mm, Pitch 0.5mm)
pins: 1 E, 2 B, 3 E, 4 C, 5 C/B

## EMC4DXV5T1G
designator Q?
Dual Common Base-Collector Bias Resistor Transistors, NPN and PNP Silicon Surface Mount Transistors, 5-Pin SOT-553, Pb-Free, Tape and Reel; Manufacturer: On Semiconductor; PartNumber: EMC4DXV5T1G; hFE Min: 80; IC Continuous (A): 0.1; Polarity: Complementary; V(BR)CEO Min (V): 50; DatasheetVersion: Rev. 6; PackageVersion: Rev. B, 05/2005; PackageReference: SOT-553-5-463B_B; PackageDescription: 5-Pin Small Outline Transistor, Body 1.6 x 1.2 mm, Pitch 0.5 mm; Supplier 1: Digi-Key; Supplier Part Number 1: EMC4DXV5T1GOS-ND; Supplier 2: Mouser; Supplier Part Number 2: 863-EMC4DXV5T1G; Packing: Tape and Reel; RoHS: TRUE; Mounting Technology: Surface Mount; ComponentLink1Description: Manufacturer URL; ComponentLink1URL: http://www.onsemi.com/; ComponentLink2Description: Datasheet; ComponentLink2URL: http://www.onsemi.cn/pub_link/Collateral/EMC2DXV5T1-D.PDF; ComponentLink3Description: Package Specification; ComponentLink3URL: http://www.onsemi.com/pub_link/Collateral/NZQA5V6AXV5%20SERIES-D.PDF
footprint ONSC-SOT-553-5-463B_B_V (SOT23, 5-Leads, Body 1.6x1.2mm, Pitch 0.5mm)
pins: 1 E, 2 B, 3 E, 4 C, 5 C/B

## EMC5DXV5T1G
designator Q?
Dual Common Base-Collector Bias Resistor Transistors, NPN and PNP Silicon Surface Mount Transistors, 5-Pin SOT-553, Pb-Free, Tape and Reel; Manufacturer: On Semiconductor; PartNumber: EMC5DXV5T1G; IC Continuous (A): 0.1; Polarity: Complementary; V(BR)CEO Min (V): 50; DatasheetVersion: Rev. 6; PackageVersion: Rev. B, 05/2005; PackageReference: SOT-553-5-463B_B; PackageDescription: 5-Pin Small Outline Transistor, Body 1.6 x 1.2 mm, Pitch 0.5 mm; Supplier 1: Digi-Key; Supplier Part Number 1: EMC5DXV5T1GOSTR-ND; Supplier 2: Digi-Key; Supplier Part Number 2: EMC5DXV5T1GOSCT-ND; Supplier 3: Mouser; Supplier Part Number 3: 863-EMC5DXV5T1G; Packing: Tape and Reel; RoHS: TRUE; Mounting Technology: Surface Mount; ComponentLink1Description: Manufacturer URL; ComponentLink1URL: http://www.onsemi.com/; ComponentLink2Description: Datasheet; ComponentLink2URL: http://www.onsemi.cn/pub_link/Collateral/EMC2DXV5T1-D.PDF; ComponentLink3Description: Package Specification; ComponentLink3URL: http://www.onsemi.com/pub_link/Collateral/NZQA5V6AXV5%20SERIES-D.PDF
footprint ONSC-SOT-553-5-463B_B_V (SOT23, 5-Leads, Body 1.6x1.2mm, Pitch 0.5mm)
pins: 1 E, 2 B, 3 E, 4 C, 5 C/B

## EMD4DXV6T1G
designator Q?
Dual Bias Resistor Transistors, NPN and PNP Silicon Surface Mount Transistors, 6-Pin SOT-563, Pb-Free, Tape and Reel; Manufacturer: On Semiconductor; PartNumber: EMD4DXV6T1G; hFE Min: 80; IC Continuous (A): 0.1; Polarity: Complementary; R1/R2 Typ: 0.21; V(BR)CEO Min (V): 50; DatasheetVersion: Rev. 1; PackageVersion: Rev. F, 04/2005; PackageReference: SOT-563-6-463A-01; PackageDescription: 6-Pin Small Outline Transistor, Body 1.6 x 1.2 mm, Pitch 0.5 mm; Supplier 1: Digi-Key; Supplier Part Number 1: EMD4DXV6T1G-ND; Supplier 2: Mouser; Supplier Part Number 2: 863-EMD4DXV6T1G; Packing: Tape and Reel; RoHS: TRUE; Mounting Technology: Surface Mount; ComponentLink1Description: Manufacturer URL; ComponentLink1URL: http://www.onsemi.com/; ComponentLink2Description: Datasheet; ComponentLink2URL: http://www.onsemi.cn/pub_link/Collateral/EMD4DXV6-D.PDF; ComponentLink3Description: Package Specification; ComponentLink3URL: http://www.onsemi.cn/pub_link/Collateral/463A-01.PDF
footprint ONSC-SOT-563-6-463A-01_V (SOT23, 6-Leads, Body 1.6x1.2mm, Pitch 0.5mm)
part A pins: 3 C, 4 E, 5 B
part B pins: 1 E, 2 B, 6 C

## EMD4DXV6T5G
designator Q?
Dual Bias Resistor Transistors, NPN and PNP Silicon Surface Mount Transistors, 6-Pin SOT-563, Pb-Free, Tape and Reel; Manufacturer: On Semiconductor; PartNumber: EMD4DXV6T5G; hFE Min: 80; IC Continuous (A): 0.1; Polarity: Complementary; R1/R2 Typ: 0.21; V(BR)CEO Min (V): 50; DatasheetVersion: Rev. 1; PackageVersion: Rev. F, 04/2005; PackageReference: SOT-563-6-463A-01; PackageDescription: 6-Pin Small Outline Transistor, Body 1.6 x 1.2 mm, Pitch 0.5 mm; Supplier 1: Digi-Key; Supplier Part Number 1: EMD4DXV6T5G-ND; Supplier 2: Mouser; Supplier Part Number 2: 863-EMD4DXV6T5G; Packing: Tape and Reel; RoHS: TRUE; Mounting Technology: Surface Mount; ComponentLink1Description: Manufacturer URL; ComponentLink1URL: http://www.onsemi.com/; ComponentLink2Description: Datasheet; ComponentLink2URL: http://www.onsemi.cn/pub_link/Collateral/EMD4DXV6-D.PDF; ComponentLink3Description: Package Specification; ComponentLink3URL: http://www.onsemi.cn/pub_link/Collateral/463A-01.PDF
footprint ONSC-SOT-563-6-463A-01_V (SOT23, 6-Leads, Body 1.6x1.2mm, Pitch 0.5mm)
part A pins: 3 C, 4 E, 5 B
part B pins: 1 E, 2 B, 6 C

## EMD5DXV6T1
designator Q?
Dual Bias Resistor Transistors, NPN and PNP Silicon Surface Mount Transistors, 6-Pin SOT-563, Pb-Free, Tape and Reel; Manufacturer: On Semiconductor; PartNumber: EMD5DXV6T1; hFE Min: 20; IC Continuous (A): 0.1; Polarity: Complementary; R1/R2 Typ: 0.47; V(BR)CEO Min (V): 50; DatasheetVersion: Rev. P1; PackageVersion: Rev. F, 04/2005; PackageReference: SOT-563-6-463A-01; PackageDescription: 6-Pin Small Outline Transistor, Body 1.6 x 1.2 mm, Pitch 0.5 mm; Supplier 1: Digi-Key; Supplier Part Number 1: EMD5DXV6T1OS-ND; Supplier 2: Mouser; Supplier Part Number 2: 863-EMD5DXV6T1; Packing: Tape and Reel; RoHS: TRUE; Mounting Technology: Surface Mount; ComponentLink1Description: Manufacturer URL; ComponentLink1URL: http://www.onsemi.com/; ComponentLink2Description: Datasheet; ComponentLink2URL: http://www.onsemi.cn/pub_link/Collateral/EMD5DXV6-D.PDF; ComponentLink3Description: Package Specification; ComponentLink3URL: http://www.onsemi.cn/pub_link/Collateral/463A-01.PDF
footprint ONSC-SOT-563-6-463A-01_V (SOT23, 6-Leads, Body 1.6x1.2mm, Pitch 0.5mm)
part A pins: 3 C, 4 E, 5 B
part B pins: 1 E, 2 B, 6 C

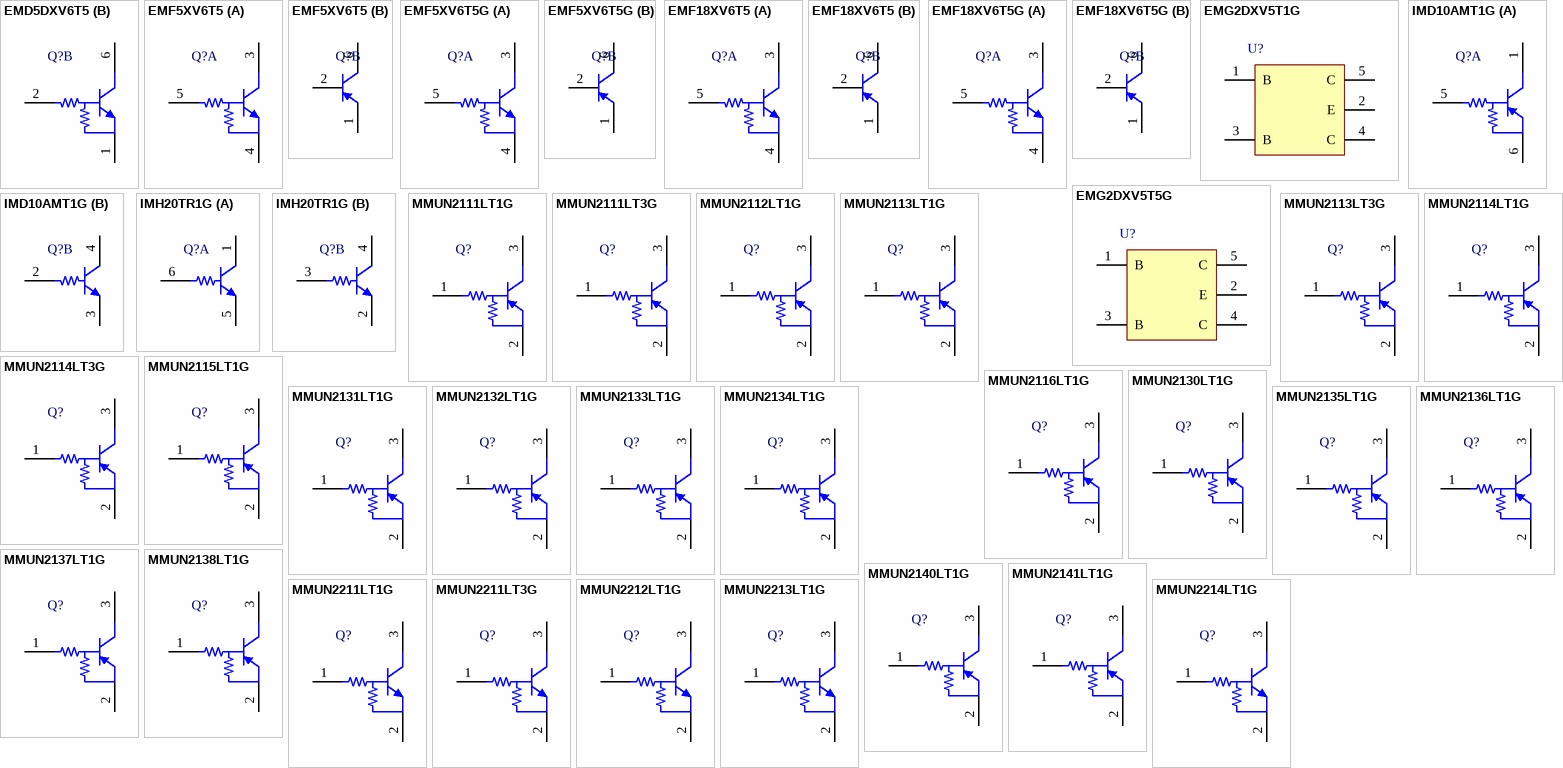
[diagram p2: symbols EMD5DXV6T5 to MMUN2214LT1G]

## EMD5DXV6T5
designator Q?
Dual Bias Resistor Transistors, NPN and PNP Silicon Surface Mount Transistors, 6-Pin SOT-563, Pb-Free, Tape and Reel; Manufacturer: On Semiconductor; PartNumber: EMD5DXV6T5; hFE Min: 20; IC Continuous (A): 0.1; Polarity: Complementary; R1/R2 Typ: 0.47; V(BR)CEO Min (V): 50; DatasheetVersion: Rev. P1; PackageVersion: Rev. F, 04/2005; PackageReference: SOT-563-6-463A-01; PackageDescription: 6-Pin Small Outline Transistor, Body 1.6 x 1.2 mm, Pitch 0.5 mm; Supplier 1: Mouser; Supplier Part Number 1: 863-EMD5DXV6T5; Packing: Tape and Reel; RoHS: TRUE; Mounting Technology: Surface Mount; ComponentLink1Description: Manufacturer URL; ComponentLink1URL: http://www.onsemi.com/; ComponentLink2Description: Datasheet; ComponentLink2URL: http://www.onsemi.cn/pub_link/Collateral/EMD5DXV6-D.PDF; ComponentLink3Description: Package Specification; ComponentLink3URL: http://www.onsemi.cn/pub_link/Collateral/463A-01.PDF
footprint ONSC-SOT-563-6-463A-01_V (SOT23, 6-Leads, Body 1.6x1.2mm, Pitch 0.5mm)
part A pins: 3 C, 4 E, 5 B
part B pins: 1 E, 2 B, 6 C

## EMF5XV6T5
designator Q?
Power Management, Dual Transistors, NPN Silicon Surface Mount Transistor with Monolithic Bias Resistor Network, 6-Pin SOT-563, Pb-Free, Tape and Reel; Manufacturer: On Semiconductor; PartNumber: EMF5XV6T5; hFE Min: 80; IC Continuous (A): 0.1; Polarity: Complementary; R1/R2 Typ: 1; V(BR)CEO Min (V): 50; DatasheetVersion: Rev. 2; PackageVersion: Rev. F, 04/2005; PackageReference: SOT-563-6-463A-01; PackageDescription: 6-Pin Small Outline Transistor, Body 1.6 x 1.2 mm, Pitch 0.5 mm; Supplier 1: Digi-Key; Supplier Part Number 1: EMF5XV6T5-ND; Supplier 2: Mouser; Supplier Part Number 2: 863-EMF5XV6T5; Packing: Tape and Reel; RoHS: TRUE; Mounting Technology: Surface Mount; ComponentLink1Description: Manufacturer URL; ComponentLink1URL: http://www.onsemi.com/; ComponentLink2Description: Datasheet; ComponentLink2URL: http://www.onsemi.cn/pub_link/Collateral/EMF5XV6T5-D.PDF; ComponentLink3Description: Package Specification; ComponentLink3URL: http://www.onsemi.cn/pub_link/Collateral/463A-01.PDF
footprint ONSC-SOT-563-6-463A-01_V (SOT23, 6-Leads, Body 1.6x1.2mm, Pitch 0.5mm)
part A pins: 3 C, 4 E, 5 B
part B pins: 1 E, 2 B, 6 C

## EMF5XV6T5G
designator Q?
Power Management, Dual Transistors, NPN Silicon Surface Mount Transistor with Monolithic Bias Resistor Network, 6-Pin SOT-563, Pb-Free, Tape and Reel; Manufacturer: On Semiconductor; PartNumber: EMF5XV6T5G; hFE Min: 80; IC Continuous (A): 0.1; Polarity: Complementary; R1/R2 Typ: 1; V(BR)CEO Min (V): 50; DatasheetVersion: Rev. 2; PackageVersion: Rev. F, 04/2005; PackageReference: SOT-563-6-463A-01; PackageDescription: 6-Pin Small Outline Transistor, Body 1.6 x 1.2 mm, Pitch 0.5 mm; Supplier 1: Digi-Key; Supplier Part Number 1: EMF5XV6T5GOSTR-ND; Supplier 2: Digi-Key; Supplier Part Number 2: EMF5XV6T5GOSCT-ND; Supplier 3: Mouser; Supplier Part Number 3: 863-EMF5XV6T5G; Packing: Tape and Reel; RoHS: TRUE; Mounting Technology: Surface Mount; ComponentLink1Description: Manufacturer URL; ComponentLink1URL: http://www.onsemi.com/; ComponentLink2Description: Datasheet; ComponentLink2URL: http://www.onsemi.cn/pub_link/Collateral/EMF5XV6T5-D.PDF; ComponentLink3Description: Package Specification; ComponentLink3URL: http://www.onsemi.cn/pub_link/Collateral/463A-01.PDF
footprint ONSC-SOT-563-6-463A-01_V (SOT23, 6-Leads, Body 1.6x1.2mm, Pitch 0.5mm)
part A pins: 3 C, 4 E, 5 B
part B pins: 1 E, 2 B, 6 C

## EMF18XV6T5
designator Q?
Dual Transistors-Power Management, NPN / PNP Dual (Complementary), 6-Pin SOT-563, Pb-Free, Tape and Reel; Manufacturer: On Semiconductor; PartNumber: EMF18XV6T5; hFE Min: 80; IC Continuous (A): 0.1; R1/R2 Typ: 1; V(BR)CEO Min (V): 50; DatasheetVersion: Rev. 2; PackageVersion: Rev. F, 04/2005; PackageReference: SOT-563-6-463A-01; PackageDescription: 6-Pin Small Outline Transistor, Body 1.6 x 1.2 mm, Pitch 0.5 mm; Supplier 1: Mouser; Supplier Part Number 1: 863-EMF18XV6T5; Packing: Tape and Reel; Polarity: Complementary; RoHS: TRUE; Mounting Technology: Surface Mount; ComponentLink1Description: Manufacturer URL; ComponentLink1URL: http://www.onsemi.com/; ComponentLink2Description: Datasheet; ComponentLink2URL: http://www.onsemi.cn/pub_link/Collateral/EMF18XV6T5-D.PDF; ComponentLink3Description: Package Specification; ComponentLink3URL: http://www.onsemi.cn/pub_link/Collateral/463A-01.PDF
footprint ONSC-SOT-563-6-463A-01_V (SOT23, 6-Leads, Body 1.6x1.2mm, Pitch 0.5mm)
part A pins: 3 C, 4 E, 5 B
part B pins: 1 E, 2 B, 6 C

## EMF18XV6T5G
designator Q?
Dual Transistors-Power Management, NPN / PNP Dual (Complementary), 6-Pin SOT-563, Pb-Free, Tape and Reel; Manufacturer: On Semiconductor; PartNumber: EMF18XV6T5G; hFE Min: 80; IC Continuous (A): 0.1; R1/R2 Typ: 1; V(BR)CEO Min (V): 50; DatasheetVersion: Rev. 2; PackageVersion: Rev. F, 04/2005; PackageReference: SOT-563-6-463A-01; PackageDescription: 6-Pin Small Outline Transistor, Body 1.6 x 1.2 mm, Pitch 0.5 mm; Supplier 1: Digi-Key; Supplier Part Number 1: EMF18XV6T5G-ND; Supplier 2: Mouser; Supplier Part Number 2: 863-EMF18XV6T5G; Packing: Tape and Reel; Polarity: Complementary; RoHS: TRUE; Mounting Technology: Surface Mount; ComponentLink1Description: Manufacturer URL; ComponentLink1URL: http://www.onsemi.com/; ComponentLink2Description: Datasheet; ComponentLink2URL: http://www.onsemi.cn/pub_link/Collateral/EMF18XV6T5-D.PDF; ComponentLink3Description: Package Specification; ComponentLink3URL: http://www.onsemi.cn/pub_link/Collateral/463A-01.PDF
footprint ONSC-SOT-563-6-463A-01_V (SOT23, 6-Leads, Body 1.6x1.2mm, Pitch 0.5mm)
part A pins: 3 C, 4 E, 5 B
part B pins: 1 E, 2 B, 6 C

## EMG2DXV5T1G
designator U?
Dual Bias Resistor Transistors, NPN Silicon Surface Mount Transistor, 5-Pin SOT-553, Pb-Free, Tape and Reel; Manufacturer: On Semiconductor; PartNumber: EMG2DXV5T1G; hFE Min: 80; IC Continuous (A): 0.1; Polarity: Dual NPN; R1/R2 Typ: 1; V(BR)CEO Min (V): 50; DatasheetVersion: Rev. 1; PackageVersion: Rev. B, 05/2005; PackageReference: SOT-553-5-463B_B; PackageDescription: 5-Pin Small Outline Transistor, Body 1.6 x 1.2 mm, Pitch 0.5 mm; Supplier 1: Digi-Key; Supplier Part Number 1: EMG2DXV5T1G-ND; Supplier 2: Mouser; Supplier Part Number 2: 863-EMG2DXV5T1G; Packing: Tape and Reel; RoHS: TRUE; Mounting Technology: Surface Mount; ComponentLink1Description: Manufacturer URL; ComponentLink1URL: http://www.onsemi.com/; ComponentLink2Description: Datasheet; ComponentLink2URL: http://www.onsemi.cn/pub_link/Collateral/EMG5DXV5-D.PDF; ComponentLink3Description: Package Specification; ComponentLink3URL: http://www.onsemi.com/pub_link/Collateral/NZQA5V6AXV5%20SERIES-D.PDF
footprint ONSC-SOT-553-5-463B_B_V (SOT23, 5-Leads, Body 1.6x1.2mm, Pitch 0.5mm)
pins: 1 B, 2 E, 3 B, 4 C, 5 C

## EMG2DXV5T5G
designator U?
Dual Bias Resistor Transistors, NPN Silicon Surface Mount Transistor, 5-Pin SOT-553, Pb-Free, Tape and Reel; Manufacturer: On Semiconductor; PartNumber: EMG2DXV5T5G; hFE Min: 80; IC Continuous (A): 0.1; Polarity: Dual NPN; R1/R2 Typ: 1; V(BR)CEO Min (V): 50; DatasheetVersion: Rev. 1; PackageVersion: Rev. B, 05/2005; PackageReference: SOT-553-5-463B_B; PackageDescription: 5-Pin Small Outline Transistor, Body 1.6 x 1.2 mm, Pitch 0.5 mm; Supplier 1: Digi-Key; Supplier Part Number 1: EMG2DXV5T5G-ND; Supplier 2: Newark; Supplier Part Number 2: 41K9771; Supplier 3: Mouser; Supplier Part Number 3: 863-EMG2DXV5T5G; Packing: Tape and Reel; RoHS: TRUE; Mounting Technology: Surface Mount; ComponentLink1Description: Manufacturer URL; ComponentLink1URL: http://www.onsemi.com/; ComponentLink2Description: Datasheet; ComponentLink2URL: http://www.onsemi.cn/pub_link/Collateral/EMG5DXV5-D.PDF; ComponentLink3Description: Package Specification; ComponentLink3URL: http://www.onsemi.com/pub_link/Collateral/NZQA5V6AXV5%20SERIES-D.PDF
footprint ONSC-SOT-553-5-463B_B_V (SOT23, 5-Leads, Body 1.6x1.2mm, Pitch 0.5mm)
pins: 1 B, 2 E, 3 B, 4 C, 5 C

## IMD10AMT1G
designator Q?
Dual Bias Resistor Transistors, NPN and PNP Silicon Surface Mount Transistors, 6-Pin SC-74, Pb-Free, Tape and Reel; Manufacturer: On Semiconductor; PartNumber: IMD10AMT1G; hFE Min: 68; IC Continuous (A): 0.5; Polarity: Complementary; R1/R2 Typ: 0.01; V(BR)CEO Min (V): 50; DatasheetVersion: Rev. 0; PackageVersion: Rev. B, 05/2005; PackageReference: SC-74R-6-318AA-01; PackageDescription: 6-Pin Small Outline Transistor, Body 3 x 1.5 mm, Pitch 0.95 mm; Supplier 1: Newark; Supplier Part Number 1: 07W6865; Supplier 2: Mouser; Supplier Part Number 2: 863-IMD10AMT1G; Packing: Tape and Reel; RoHS: TRUE; Mounting Technology: Surface Mount; ComponentLink1Description: Manufacturer URL; ComponentLink1URL: http://www.onsemi.com/; ComponentLink2Description: Datasheet; ComponentLink2URL: http://www.onsemi.cn/pub_link/Collateral/IMD10AMT1G-D.PDF; ComponentLink3Description: Package Specification; ComponentLink3URL: http://www.onsemi.cn/pub_link/Collateral/318AA.PDF
footprint ONSC-SC-74R-6-318AA-01_V (SOT23, 6-Leads, Body 3x1.5mm, Pitch 0.95mm)
part A pins: 1 C, 5 B, 6 E
part B pins: 2 B, 3 E, 4 C

## IMH20TR1G
designator Q?
Dual Bias Resistor Transistors, NPN Surface Mount, 6-Pin SC-74, Pb-Free, Tape and Reel; Manufacturer: On Semiconductor; PartNumber: IMH20TR1G; hFE Min: 100; IC Continuous (A): 0.6; Polarity: Dual NPN; V(BR)CEO Min (V): 15; DatasheetVersion: Rev. 0; PackageVersion: Rev. B, 05/2005; PackageReference: SC-74R-6-318AA-01; PackageDescription: 6-Pin Small Outline Transistor, Body 3 x 1.5 mm, Pitch 0.95 mm; Supplier 1: Digi-Key; Supplier Part Number 1: IMH20TR1G-ND; Supplier 2: Mouser; Supplier Part Number 2: 863-IMH20TR1G; Packing: Tape and Reel; RoHS: TRUE; Mounting Technology: Surface Mount; ComponentLink1Description: Manufacturer URL; ComponentLink1URL: http://www.onsemi.com/; ComponentLink2Description: Datasheet; ComponentLink2URL: http://www.onsemi.cn/pub_link/Collateral/IMH20TR1G.PDF; ComponentLink3Description: Package Specification; ComponentLink3URL: http://www.onsemi.cn/pub_link/Collateral/318AA.PDF
footprint ONSC-SC-74R-6-318AA-01_V (SOT23, 6-Leads, Body 3x1.5mm, Pitch 0.95mm)
part A pins: 1 C, 5 E, 6 B
part B pins: 2 E, 3 B, 4 C

## MMUN2111LT1G
designator Q?
Digital Transistor (BRT), R1=10 kOhm, R2=10 kOhm, PNP Transistor, 3-Pin SOT-23, Pb-Free, Tape and Reel; Manufacturer: On Semiconductor; PartNumber: MMUN2111LT1G; hFE Min: 35; IC Continuous (A): 0.1; R1/R2 Typ: 1; V(BR)CEO Min (V): 50; DatasheetVersion: Rev. 7; PackageVersion: Rev. AP, 11/2009; PackageReference: SOT-23-3-318-08; PackageDescription: 3-Pin Small Outline Transistor, Body 2.92 x 1.3 mm, Pitch 0.95 mm; Supplier 1: Digi-Key; Supplier Part Number 1: MMUN2111LT1GOSTR-ND; Supplier 2: Digi-Key; Supplier Part Number 2: MMUN2111LT1GOSCT-ND; Supplier 3: Digi-Key; Supplier Part Number 3: MMUN2111LT1GOSDKR-ND; Supplier 4: Farnell; Supplier Part Number 4: 9556702RL; Supplier 5: Farnell; Supplier Part Number 5: 9556702; Supplier 6: Newark; Supplier Part Number 6: 88H4909; Supplier 7: Mouser; Supplier Part Number 7: 863-MMUN2111LT1G; Packing: Tape and Reel; Polarity: PNP; RoHS: TRUE; Mounting Technology: Surface Mount; ComponentLink1Description: Manufacturer URL; ComponentLink1URL: http://www.onsemi.com/; ComponentLink2Description: Datasheet; ComponentLink2URL: http://www.onsemi.cn/pub_link/Collateral/DTA114E-D.PDF; ComponentLink3Description: Package Specification; ComponentLink3URL: http://www.onsemi.cn/pub_link/Collateral/318-08.PDF
footprint ONSC-SOT-23-3-318-08_V (SOT23, 3-Leads, Body 2.92x1.3mm, Pitch 0.95mm)
pins: 1 B, 2 E, 3 C